# EAGLE library part XCORE2530 (library RobotElementy)
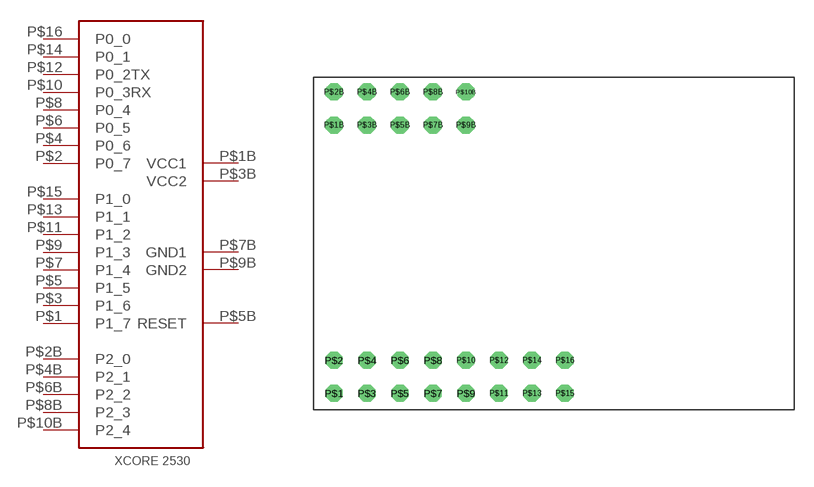
[diagram p6: symbol with the pads of XCORE2530; footprint XCORE2530]

Designator prefix -

## XCORE2530  [XCORE2530]
P$1  P1_7
P$1B  VCC1  sup
P$2  P0_7
P$2B  P2_0
P$3  P1_6
P$3B  VCC2  sup
P$4  P0_6
P$4B  P2_1
P$5  P1_5
P$5B  RESET  in
P$6  P0_5
P$6B  P2_2
P$7  P1_4
P$7B  GND1  sup
P$8  P0_4
P$8B  P2_3
P$9  P1_3
P$9B  GND2  sup
P$10  P0_3RX
P$10B  P2_4
P$11  P1_2
P$12  P0_2TX
P$13  P1_1
P$14  P0_1
P$15  P1_0
P$16  P0_0

## Footprint XCORE2530 (pad centres in mm)
drill 0.8 octagon: P$1 1.587,1.27; P$1B 1.587,21.907; P$2 1.587,3.81; P$2B 1.587,24.448; P$3 4.128,1.27; P$3B 4.128,21.907; P$4 4.128,3.81; P$4B 4.128,24.448; P$5 6.668,1.27; P$5B 6.668,21.907; P$6 6.668,3.81; P$6B 6.668,24.448; P$7 9.207,1.27; P$7B 9.207,21.907; P$8 9.207,3.81; P$8B 9.207,24.448; P$9 11.748,1.27; P$9B 11.748,21.907; P$10 11.748,3.81; P$10B 11.748,24.448; P$11 14.287,1.27; P$12 14.287,3.81; P$13 16.828,1.27; P$14 16.828,3.81; P$15 19.367,1.27; P$16 19.367,3.81